# Altium footprint library Footprints.PcbLib: 24 footprints (part 2 of 2)
Each footprint in its own frame and in the unit in brackets; x right, y up, seen from the top. Pads: shape width x height; smd on the part's side, far side on the other; paste and mask are expansions set on the pad; w line width, h text height; cw(c..) or ccw(c..) is an arc to the next point about the centre after c.
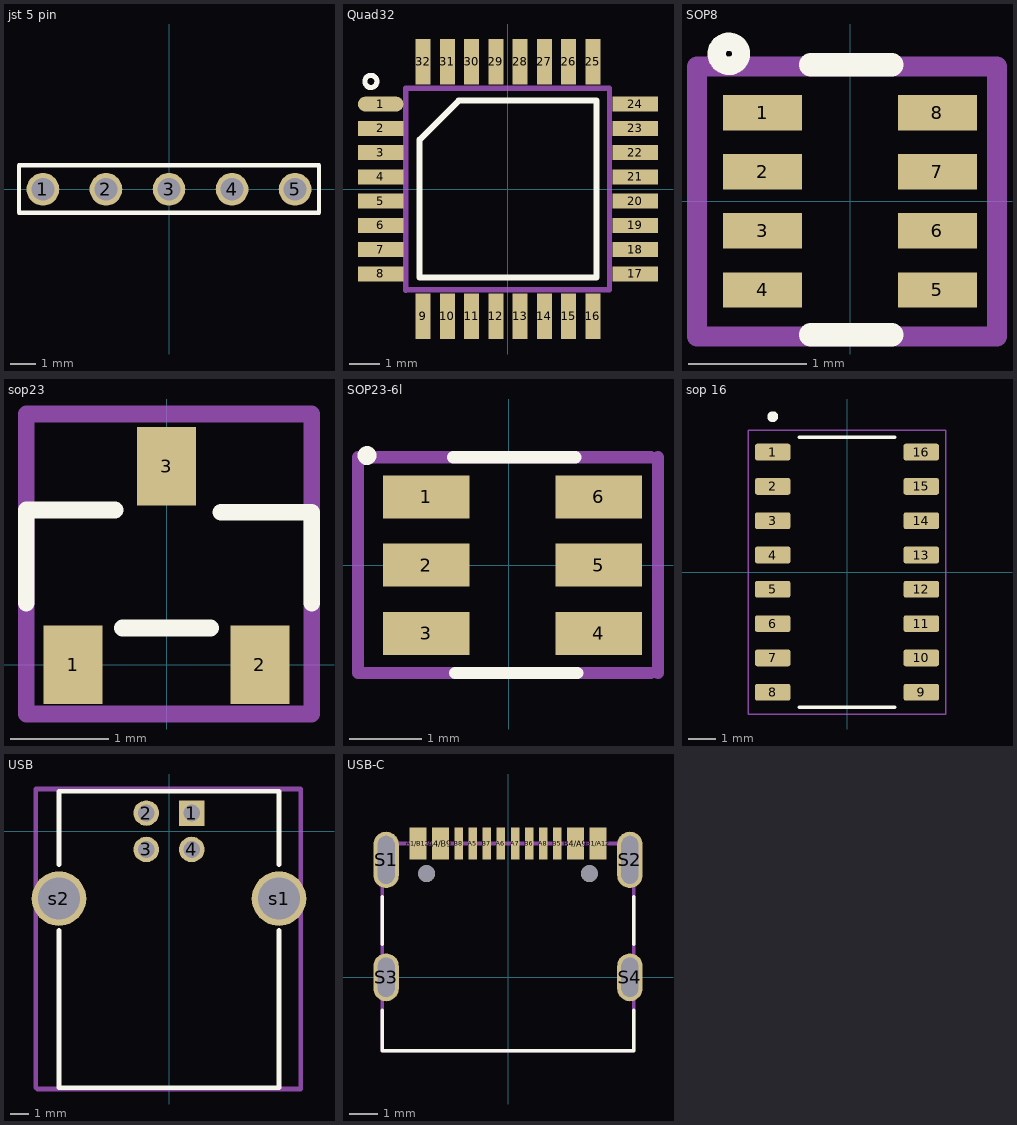
[diagram p1: the footprints below, top view; thin cyan lines are the x and y axes]

## jst 5 pin [mm]
pads (5):
  round 1.3 hole 0.9: 1(-5,0) 2(-2.5,0) 3(0,0) 4(2.5,0) 5(5,0)
Top Overlay:
  lines w0.17: -5.95,-0.925 5.95,-0.925 5.95,0.95 -5.95,0.95 -5.95,-0.925

## Quad32 [mm]
pads (32):
  oval 1.5x0.5 smd: 1(-4.2,2.8)
  rect 1.5x0.5 smd: 2(-4.2,2) 3(-4.2,1.2) 4(-4.2,0.4) 5(-4.2,-0.4) 6(-4.2,-1.2) 7(-4.2,-2) 8(-4.2,-2.8) 17(4.2,-2.8) 18(4.2,-2) 19(4.2,-1.2) 20(4.2,-0.4) 21(4.2,0.4) 22(4.2,1.2) 23(4.2,2) 24(4.2,2.8)
  rect 0.5x1.5 smd: 9(-2.8,-4.2) 10(-2,-4.2) 11(-1.2,-4.2) 12(-0.4,-4.2) 13(0.4,-4.2) 14(1.2,-4.2) 15(2,-4.2) 16(2.8,-4.2) 25(2.8,4.2) 26(2,4.2) 27(1.2,4.2) 28(0.4,4.2) 29(-0.4,4.2) 30(-1.2,4.2) 31(-2,4.2) 32(-2.8,4.2)
Top Overlay:
  circle w0.17: c-4.525,3.55 r0.2
  lines w0.2: -2.915,-2.915 2.915,-2.915 2.915,2.915 -1.63,2.915 -2.915,1.63 -2.915,-2.915
Mechanical 29:
  lines w0.17: -3.375,-3.35 -3.375,3.325 3.35,3.325 3.35,-3.325 -3.35,-3.325
  text ".Designator" at -5.296,-6.488 h1
3D body "User Library-tqfp32.step": height 1.2, standoff 0, extent -4.575,-4.624 4.624,4.574

## SOP8 [mm]
pads (8):
  rect 0.67x0.3 smd mask+0.06: 1(-0.74,0.75) 2(-0.74,0.25) 3(-0.74,-0.25) 4(-0.74,-0.75) 5(0.74,-0.75) 6(0.74,-0.25) 7(0.74,0.25) 8(0.74,0.75)
Top Overlay:
  circle w0.154: c-1.025,1.25 r0.103
  lines w0.2: -0.334,-1.13 0.352,-1.13 ; -0.334,1.156 0.352,1.156
Mechanical 29:
  lines w0.17: -1.295,-1.143 1.245,-1.143 1.245,1.143 -1.295,1.143 -1.295,-1.143
  text ".Designator" at -3.912,-2.486 h1
3D body "TPS2116DRLR--3DModel-STEP-510211.STEP": height 0.6, standoff 0, extent -0.85,-1.05 0.75,1.05

## sop23 [mm]
pads (3):
  rect 0.6x0.8 smd: 1(-0.95,0) 2(0.95,0) 3(0,2.02)
Top Overlay:
  lines w0.17: -1.425,0.625 -1.425,1.575 -0.525,1.575 ; -0.45,0.375 0.45,0.375 ; 0.55,1.55 1.475,1.55 1.475,0.625
Mechanical 29:
  lines w0.17: -1.425,-0.5 1.475,-0.5 1.475,2.55 -1.425,2.55 -1.425,-0.5
  text ".Designator" at -2.646,-2.038 h1
3D body "PSM712-LF-T7.STEP": height 1.21, standoff 0, extent -1.435,-0.125 1.485,2.175

## SOP23-6l [mm]
pads (6):
  rect 1.2x0.6 smd: 1(-1.15,0.95) 2(-1.15,0) 3(-1.15,-0.95) 4(1.25,-0.95) 5(1.25,0) 6(1.25,0.95)
Top Overlay:
  circle w0.15: c-1.975,1.525 r0.056
  lines w0.17: -0.775,1.5 0.925,1.5 ; -0.75,-1.5 0.95,-1.5
Mechanical 29:
  lines w0.17: 1.975,-1.5 -2.1,-1.5 -2.1,1.5 1.975,1.5 ; 2.075,-1.5 2.075,1.5
  text ".Designator" at -2.596,-2.988 h1
3D body "SOT23-6L_STM.step": height 1.45, standoff 0, extent -1.399,-1.524 1.599,1.524

## sop 16 [mm]
height 1.8
pads (16):
  rrect25% 1.31x0.62 smd: 1(-2.75,4.445) 2(-2.75,3.175) 3(-2.75,1.905) 4(-2.75,0.635) 5(-2.75,-0.635) 6(-2.75,-1.905) 7(-2.75,-3.175) 8(-2.75,-4.445) 9(2.75,-4.445) 10(2.75,-3.175) 11(2.75,-1.905) 12(2.75,-0.635) 13(2.75,0.635) 14(2.75,1.905) 15(2.75,3.175) 16(2.75,4.445)
Top Overlay:
  circle w0.2: c-2.75,5.755 r0.1
  lines w0.127: -1.775,-5 1.775,-5 -1.775,-5 ; -1.775,5 1.775,5 -1.775,5
Mechanical 29:
  lines w0.05: -3.655,-5.25 -3.655,5.25 3.655,5.25 3.655,-5.25 -3.655,-5.25
  text ".Designator" at -4.371,-6.663 h1
3D body "step_temp.STEP": height 1.8, standoff 0, extent -3,-5 3,5

## USB [mm]
pads (6):
  rect 1.4x1.4 hole 0.92: 1(1.25,1)
  round 1.4 hole 0.92: 2(-1.25,1) 3(-1.25,-1) 4(1.25,-1)
  round 3 hole 2.3: s1(6.05,-3.7) s2(-6.05,-3.7)
Top Overlay:
  lines w0.254: -6.05,-5.45 -6.05,-14.1 6.05,-14.1 6.05,-5.45 ; -6.05,-1.85 -6.05,2.2 6.05,2.2 6.05,-1.85
Mechanical 29:
  lines w0.254: 7.25,-14.175 7.25,2.325 -7.325,2.325 -7.325,-14.1 -7.25,-14.175 7.25,-14.175 ; 7.25,-14.175 7.25,-14.175
  text ".Designator" at -8.362,-12.271 h1
3D body "USB-B-S-F-B-TH.stp": height 10.7, standoff -3.74, extent -7.25,-14.175 7.25,2.325

## USB-C [mm]
height 3.26
pads (18):
  rect 0.6x1.14 smd mask+0.05: A1/B12(-3.2,4.75) A4/B9(-2.4,4.75) B1/A12(3.2,4.75) B4/A9(2.4,4.75)
  rect 0.3x1.14 smd mask+0.05: A5(-1.25,4.75) A6(-0.25,4.75) A7(0.25,4.75) A8(1.25,4.75) B5(1.75,4.75) B6(0.75,4.75) B7(-0.75,4.75) B8(-1.75,4.75)
  oval 0.9x2 hole 0.6 slot 1.7 at 90 deg: S1(-4.325,4.17) S2(4.325,4.17)
  oval 0.9x1.7 hole 0.6 slot 1.4 at 90 deg: S3(-4.325,0) S4(4.325,0)
  round 0.6 hole 0.6 unplated: ""(-2.89,3.68) ""(2.89,3.68)
Top Overlay:
  lines w0.127: -4.47,-1.17 -4.47,-2.6 4.47,-2.6 4.47,-1.17 ; -4.47,1.17 -4.47,2.85 ; 4.47,1.17 4.47,2.85
Mechanical 29:
  lines w0.127: -4.47,-2.6 4.47,-2.6 4.47,4.75 -4.47,4.75 -4.47,-2.6
3D body "step_temp.STEP": height 3.31, standoff -0.99, extent -4.47,-2.6 4.47,5.305